# EAGLE library part MAX708RESA-T (library maholli)
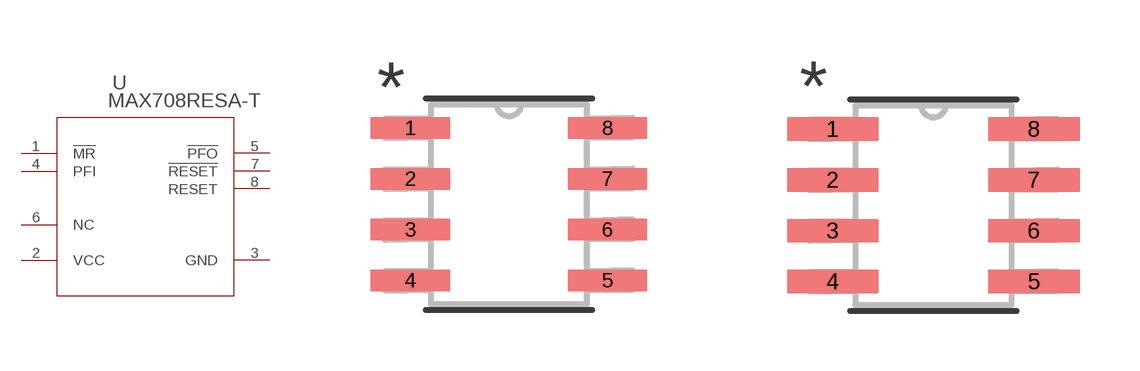
[diagram p3: symbol with the pads of SO8; footprints SO8, SO8-M]

Designator prefix U

## MAX708RESA-T (MANUFACTURER_PART_NUMBER: MAX708RESAT; VENDOR: ON Semiconductor)  [SO8]
1  !MR  in
2  VCC  pwr
3  GND  pwr
4  PFI  in
5  !PFO  out
6  NC  nc
7  !RESET  out
8  RESET  out

## MAX708RESA-TSO8-M (MANUFACTURER_PART_NUMBER: MAX708RESAT; VENDOR: ON Semiconductor)  [SO8-M]
Pads as for SO8

## MAX708RESA-TSO8-L (MANUFACTURER_PART_NUMBER: MAX708RESAT; VENDOR: ON Semiconductor)  [SO8-L]
Pads as for SO8

## Footprint SO8 (pad centres in mm)
smd 1.981 x 0.533: 1 -2.464,1.905; 2 -2.464,0.635; 3 -2.464,-0.635; 4 -2.464,-1.905; 5 2.464,-1.905; 6 2.464,-0.635; 7 2.464,0.635; 8 2.464,1.905

## Footprint SO8-M (pad centres in mm)
smd 2.286 x 0.584: 1 -2.515,1.905; 2 -2.515,0.635; 3 -2.515,-0.635; 4 -2.515,-1.905; 5 2.515,-1.905; 6 2.515,-0.635; 7 2.515,0.635; 8 2.515,1.905

## Footprint SO8-L (pad centres in mm)
smd 1.676 x 0.483: 1 -2.413,1.905; 2 -2.413,0.635; 3 -2.413,-0.635; 4 -2.413,-1.905; 5 2.413,-1.905; 6 2.413,-0.635; 7 2.413,0.635; 8 2.413,1.905